# EAGLE library part BM11B-SRSS (library con-JST SH)
JST SH series header 1.00mm pitch disconnectable crimp style connectors, vertical (side entry type), 11 pins
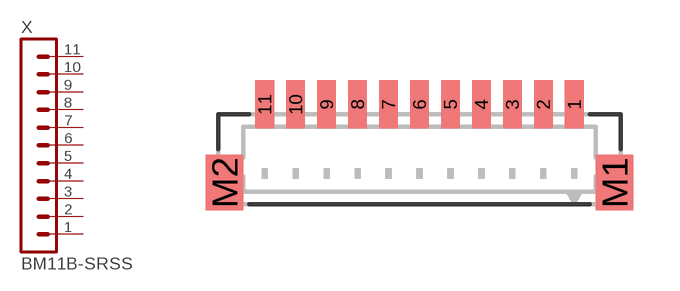
[diagram p5: symbol with the pads of BM11B-SRSS-TB; footprint BM11B-SRSS-TB]

Designator prefix X

## BM11B-SRSS-TB  [BM11B-SRSS-TB]
1  1  pas
2  2  pas
3  3  pas
4  4  pas
5  5  pas
6  6  pas
7  7  pas
8  8  pas
9  9  pas
10  10  pas
11  11  pas

## Footprint BM11B-SRSS-TB (pad centres in mm)
JST SH series header 1.00mm pitch disconnectable crimp style connectors, SMT vertical (top entry type), 11 pins
smd 0.6 x 1.55: 1 5,0; 2 4,0; 3 3,0; 4 2,0; 5 1,0; 6 0,0; 7 -1,0; 8 -2,0; 9 -3,0; 10 -4,0; 11 -5,0
smd 1.2 x 1.8: M1 6.3,-2.525; M2 -6.3,-2.525